# Altium schematic symbol library LT8315.SchLib: 1 symbol
Pins are listed as number, name and electrical type; pins without a type are passive.

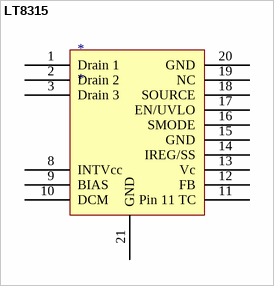
[diagram p0: symbol LT8315]

## LT8315
designator *
LT8315IFE 560-12V buck converter
pins: 1 Drain 1, 2 Drain 2, 3 Drain 3, 8 INTVcc, 9 BIAS, 10 DCM, 11 Pin 11 TC, 12 FB, 13 Vc (power), 14 IREG/SS, 15 GND (power), 16 SMODE, 17 EN/UVLO, 18 SOURCE, 19 NC, 20 GND (power), 21 GND
1 alternate drawing of the same symbol